# Altium footprint library DFN-8-3x2mm_vA.PcbLib: 1 footprints
Each footprint in its own frame and in the unit in brackets; x right, y up, seen from the top. Pads: shape width x height; smd on the part's side, far side on the other; paste and mask are expansions set on the pad; w line width, h text height; cw(c..) or ccw(c..) is an arc to the next point about the centre after c.
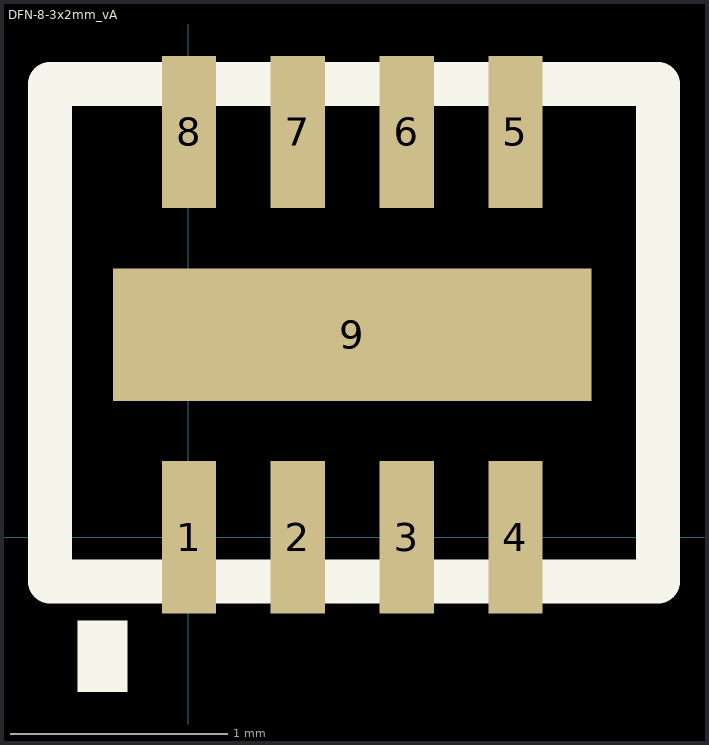
[diagram p0: the footprint, top view; thin cyan lines are the x and y axes]

## DFN-8-3x2mm_vA [mm]
pads (9):
  rect 0.25x0.7 smd: 1(0.004,0) 2(0.504,0) 3(1.004,0) 4(1.504,0) 5(1.504,1.863) 6(1.004,1.863) 7(0.504,1.863) 8(0.004,1.863)
  rect 2.2x0.61 smd: 9(0.754,0.931)
Top Overlay:
  rectangle: -0.508,-0.711 -0.279,-0.381
  lines w0.203: -0.635,-0.203 -0.635,2.083 2.159,2.083 2.159,-0.203 -0.635,-0.203